# Altium integrated library Capacitor - Aluminium TH.IntLib: 4591 symbols (part 68 of 68)
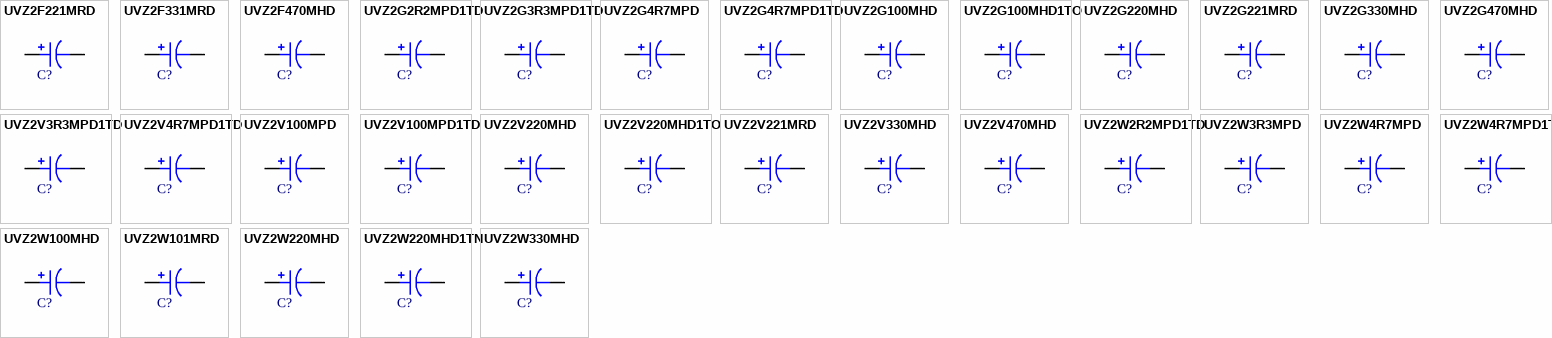
[diagram p181: symbols UVZ2F221MRD to UVZ2W330MHD]

## UVZ2F331MRD
designator C?, comment 330uF  (value not drawn)
CAP ALUM 330UF 20% 315V RADIAL; Part Number: UVZ2F331MRD; Manufacturer: Nichicon; TemperatureRange: -40C ~ 105C; Type: Polar; Ripple Current: 760mA; Value: 330uF; PartId: 27507; Supplier 1: Digi-Key; Supplier Part Number 1: 493-1433-ND; ComponentLink1Description: Datasheet; ComponentLink1URL: http://nichicon-us.com/english/products/pdfs/e-uvz.pdf; ComponentLink2Description: Digi-Key Listing; ComponentLink2URL: https://www.digikey.com/product-detail/en/nichicon/UVZ2F331MRD/493-1433-ND/589174; Tolerance: 20%; Voltage: 315V; Price: 4.2; Device Package: Radial, Can, 25mm
footprint CAP AL TH D25 L12.5 H52
pins: 1, 2

## UVZ2F470MHD
designator C?, comment 47uF  (value not drawn)
CAP ALUM 47UF 20% 315V RADIAL; Part Number: UVZ2F470MHD; Manufacturer: Nichicon; TemperatureRange: -40C ~ 105C; Type: Polar; Ripple Current: 230mA; Value: 47uF; PartId: 26567; Supplier 1: Digi-Key; Supplier Part Number 1: 493-1430-ND; ComponentLink1Description: Datasheet; ComponentLink1URL: http://nichicon-us.com/english/products/pdfs/e-uvz.pdf; ComponentLink2Description: Digi-Key Listing; ComponentLink2URL: https://www.digikey.com/product-detail/en/nichicon/UVZ2F470MHD/493-1430-ND/589171; Tolerance: 20%; Voltage: 315V; Price: 1.16; Device Package: Radial, Can, 16mm
footprint CAP AL TH D16 L7.5 H26.5
pins: 1, 2

## UVZ2G2R2MPD1TD
designator C?, comment 2.2uF  (value not drawn)
CAP ALUM 2.2UF 20% 400V RADIAL; Part Number: UVZ2G2R2MPD1TD; Manufacturer: Nichicon; TemperatureRange: -40C ~ 105C; Type: Polar; Ripple Current: 30mA; Value: 2.2uF; PartId: 24519; Supplier 1: Digi-Key; Supplier Part Number 1: 493-13553-3-ND; ComponentLink1Description: Datasheet; ComponentLink1URL: http://nichicon-us.com/english/products/pdfs/e-uvz.pdf; ComponentLink2Description: Digi-Key Listing; ComponentLink2URL: https://www.digikey.com/product-detail/en/nichicon/UVZ2G2R2MPD1TD/493-13553-3-ND/4342109; Tolerance: 20%; Voltage: 400V; Price: 0.1354; Device Package: Radial, Can, 10mm
footprint CAP AL TH D10 L5 H14.5
pins: 1, 2

## UVZ2G3R3MPD1TD
designator C?, comment 3.3uF  (value not drawn)
CAP ALUM 3.3UF 20% 400V RADIAL; Part Number: UVZ2G3R3MPD1TD; Manufacturer: Nichicon; TemperatureRange: -40C ~ 105C; Type: Polar; Ripple Current: 38mA; Value: 3.3uF; PartId: 24555; Supplier 1: Digi-Key; Supplier Part Number 1: 493-13554-3-ND; ComponentLink1Description: Datasheet; ComponentLink1URL: http://nichicon-us.com/english/products/pdfs/e-uvz.pdf; ComponentLink2Description: Digi-Key Listing; ComponentLink2URL: https://www.digikey.com/product-detail/en/nichicon/UVZ2G3R3MPD1TD/493-13554-3-ND/4342110; Tolerance: 20%; Voltage: 400V; Price: 0.1514; Device Package: Radial, Can, 10mm
footprint CAP AL TH D10 L5 H14.5
pins: 1, 2

## UVZ2G4R7MPD
designator C?, comment 4.7uF  (value not drawn)
CAP ALUM 4.7UF 20% 400V RADIAL; Part Number: UVZ2G4R7MPD; Manufacturer: Nichicon; TemperatureRange: -40C ~ 105C; Type: Polar; Ripple Current: 50mA; Value: 4.7uF; PartId: 25204; Supplier 1: Digi-Key; Supplier Part Number 1: 493-1447-ND; ComponentLink1Description: Datasheet; ComponentLink1URL: http://nichicon-us.com/english/products/pdfs/e-uvz.pdf; ComponentLink2Description: Digi-Key Listing; ComponentLink2URL: https://www.digikey.com/product-detail/en/nichicon/UVZ2G4R7MPD/493-1447-ND/589188; Tolerance: 20%; Voltage: 400V; Price: 0.51; Device Package: Radial, Can, 10mm
footprint CAP AL TH D10 L5 H17.5
pins: 1, 2

## UVZ2G4R7MPD1TD
designator C?, comment 4.7uF  (value not drawn)
CAP ALUM 4.7UF 20% 400V RADIAL; Part Number: UVZ2G4R7MPD1TD; Manufacturer: Nichicon; TemperatureRange: -40C ~ 105C; Type: Polar; Ripple Current: 50mA; Value: 4.7uF; PartId: 25031; Supplier 1: Digi-Key; Supplier Part Number 1: 493-13555-3-ND; ComponentLink1Description: Datasheet; ComponentLink1URL: http://nichicon-us.com/english/products/pdfs/e-uvz.pdf; ComponentLink2Description: Digi-Key Listing; ComponentLink2URL: https://www.digikey.com/product-detail/en/nichicon/UVZ2G4R7MPD1TD/493-13555-3-ND/4342111; Tolerance: 20%; Voltage: 400V; Price: 0.1758; Device Package: Radial, Can, 10mm
footprint CAP AL TH D10 L5 H17.5
pins: 1, 2

## UVZ2G100MHD
designator C?, comment 10uF  (value not drawn)
CAP ALUM 10UF 20% 400V RADIAL; Part Number: UVZ2G100MHD; Manufacturer: Nichicon; TemperatureRange: -40C ~ 105C; Type: Polar; Ripple Current: 90mA; Value: 10uF; PartId: 22860; Supplier 1: Digi-Key; Supplier Part Number 1: 493-1448-ND; ComponentLink1Description: Datasheet; ComponentLink1URL: http://nichicon-us.com/english/products/pdfs/e-uvz.pdf; ComponentLink2Description: Digi-Key Listing; ComponentLink2URL: https://www.digikey.com/product-detail/en/nichicon/UVZ2G100MHD/493-1448-ND/589189; Tolerance: 20%; Voltage: 400V; Price: 0; Device Package: Radial, Can, 12.5mm
footprint CAP AL TH D12.5 L5 H20
pins: 1, 2

## UVZ2G100MHD1TO
designator C?, comment 10uF  (value not drawn)
CAP ALUM 10UF 20% 400V RADIAL; Part Number: UVZ2G100MHD1TO; Manufacturer: Nichicon; TemperatureRange: -40C ~ 105C; Type: Polar; Ripple Current: 90mA; Value: 10uF; PartId: 23145; Supplier 1: Digi-Key; Supplier Part Number 1: 493-13551-3-ND; ComponentLink1Description: Datasheet; ComponentLink1URL: http://nichicon-us.com/english/products/pdfs/e-uvz.pdf; ComponentLink2Description: Digi-Key Listing; ComponentLink2URL: https://www.digikey.com/product-detail/en/nichicon/UVZ2G100MHD1TO/493-13551-3-ND/4342107; Tolerance: 20%; Voltage: 400V; Price: 0.2817; Device Package: Radial, Can, 12.5mm
footprint CAP AL TH D12.5 L5 H22
pins: 1, 2

## UVZ2G220MHD
designator C?, comment 22uF  (value not drawn)
CAP ALUM 22UF 20% 400V RADIAL; Part Number: UVZ2G220MHD; Manufacturer: Nichicon; TemperatureRange: -40C ~ 105C; Type: Polar; Ripple Current: 165mA; Value: 22uF; PartId: 26533; Supplier 1: Digi-Key; Supplier Part Number 1: 493-1449-ND; ComponentLink1Description: Datasheet; ComponentLink1URL: http://nichicon-us.com/english/products/pdfs/e-uvz.pdf; ComponentLink2Description: Digi-Key Listing; ComponentLink2URL: https://www.digikey.com/product-detail/en/nichicon/UVZ2G220MHD/493-1449-ND/589190; Tolerance: 20%; Voltage: 400V; Price: 0.95; Device Package: Radial, Can, 16mm
footprint CAP AL TH D16 L7.5 H26.5
pins: 1, 2

## UVZ2G221MRD
designator C?, comment 220uF  (value not drawn)
CAP ALUM 220UF 20% 400V RADIAL; Part Number: UVZ2G221MRD; Manufacturer: Nichicon; TemperatureRange: -40C ~ 105C; Type: Polar; Ripple Current: 660mA; Value: 220uF; PartId: 27505; Supplier 1: Digi-Key; Supplier Part Number 1: 493-1453-ND; ComponentLink1Description: Datasheet; ComponentLink1URL: http://nichicon-us.com/english/products/pdfs/e-uvz.pdf; ComponentLink2Description: Digi-Key Listing; ComponentLink2URL: https://www.digikey.com/product-detail/en/nichicon/UVZ2G221MRD/493-1453-ND/589194; Tolerance: 20%; Voltage: 400V; Price: 4.07; Device Package: Radial, Can, 25mm
footprint CAP AL TH D25 L12.5 H52
pins: 1, 2

## UVZ2G330MHD
designator C?, comment 33uF  (value not drawn)
CAP ALUM 33UF 20% 400V RADIAL; Part Number: UVZ2G330MHD; Manufacturer: Nichicon; TemperatureRange: -40C ~ 105C; Type: Polar; Ripple Current: 215mA; Value: 33uF; PartId: 27015; Supplier 1: Digi-Key; Supplier Part Number 1: 493-1450-ND; ComponentLink1Description: Datasheet; ComponentLink1URL: http://nichicon-us.com/english/products/pdfs/e-uvz.pdf; ComponentLink2Description: Digi-Key Listing; ComponentLink2URL: https://www.digikey.com/product-detail/en/nichicon/UVZ2G330MHD/493-1450-ND/589191; Tolerance: 20%; Voltage: 400V; Price: 1.42; Device Package: Radial, Can, 16mm
footprint CAP AL TH D16 L7.5 H33.5
pins: 1, 2

## UVZ2G470MHD
designator C?, comment 47uF  (value not drawn)
CAP ALUM 47UF 20% 400V RADIAL; Part Number: UVZ2G470MHD; Manufacturer: Nichicon; TemperatureRange: -40C ~ 105C; Type: Polar; Ripple Current: 270mA; Value: 47uF; PartId: 27370; Supplier 1: Digi-Key; Supplier Part Number 1: 493-1451-ND; ComponentLink1Description: Datasheet; ComponentLink1URL: http://nichicon-us.com/english/products/pdfs/e-uvz.pdf; ComponentLink2Description: Digi-Key Listing; ComponentLink2URL: https://www.digikey.com/product-detail/en/nichicon/UVZ2G470MHD/493-1451-ND/589192; Tolerance: 20%; Voltage: 400V; Price: 1.79; Device Package: Radial, Can, 16mm
footprint CAP AL TH D16 L7.5 H37
pins: 1, 2

## UVZ2V3R3MPD1TD
designator C?, comment 3.3uF  (value not drawn)
CAP ALUM 3.3UF 20% 350V RADIAL; Part Number: UVZ2V3R3MPD1TD; Manufacturer: Nichicon; TemperatureRange: -40C ~ 105C; Type: Polar; Ripple Current: 38mA; Value: 3.3uF; PartId: 24770; Supplier 1: Digi-Key; Supplier Part Number 1: 493-13561-1-ND; ComponentLink1Description: Datasheet; ComponentLink1URL: http://nichicon-us.com/english/products/pdfs/e-uvz.pdf; ComponentLink2Description: Digi-Key Listing; ComponentLink2URL: https://www.digikey.com/product-detail/en/nichicon/UVZ2V3R3MPD1TD/493-13561-1-ND/4342272; Tolerance: 20%; Voltage: 350V; Price: 0.43; Device Package: Radial, Can, 10mm
footprint CAP AL TH D10 L5 H14.5
pins: 1, 2

## UVZ2V4R7MPD1TD
designator C?, comment 4.7uF  (value not drawn)
CAP ALUM 4.7UF 20% 350V RADIAL; Part Number: UVZ2V4R7MPD1TD; Manufacturer: Nichicon; TemperatureRange: -40C ~ 105C; Type: Polar; Ripple Current: 45mA; Value: 4.7uF; PartId: 24771; Supplier 1: Digi-Key; Supplier Part Number 1: 493-13562-1-ND; ComponentLink1Description: Datasheet; ComponentLink1URL: http://nichicon-us.com/english/products/pdfs/e-uvz.pdf; ComponentLink2Description: Digi-Key Listing; ComponentLink2URL: https://www.digikey.com/product-detail/en/nichicon/UVZ2V4R7MPD1TD/493-13562-1-ND/4342273; Tolerance: 20%; Voltage: 350V; Price: 0.43; Device Package: Radial, Can, 10mm
footprint CAP AL TH D10 L5 H14.5
pins: 1, 2

## UVZ2V100MPD
designator C?, comment 10uF  (value not drawn)
CAP ALUM 10UF 20% 350V RADIAL; Part Number: UVZ2V100MPD; Manufacturer: Nichicon; TemperatureRange: -40C ~ 105C; Type: Polar; Ripple Current: 80mA; Value: 10uF; PartId: 25569; Supplier 1: Digi-Key; Supplier Part Number 1: 493-1438-ND; ComponentLink1Description: Datasheet; ComponentLink1URL: http://nichicon-us.com/english/products/pdfs/e-uvz.pdf; ComponentLink2Description: Digi-Key Listing; ComponentLink2URL: https://www.digikey.com/product-detail/en/nichicon/UVZ2V100MPD/493-1438-ND/589179; Tolerance: 20%; Voltage: 350V; Price: 0.65; Device Package: Radial, Can, 10mm
footprint CAP AL TH D10 L5 H22
pins: 1, 2

## UVZ2V100MPD1TD
designator C?, comment 10uF  (value not drawn)
CAP ALUM 10UF 20% 350V RADIAL; Part Number: UVZ2V100MPD1TD; Manufacturer: Nichicon; TemperatureRange: -40C ~ 105C; Type: Polar; Ripple Current: 80mA; Value: 10uF; PartId: 25768; Supplier 1: Digi-Key; Supplier Part Number 1: 493-13557-3-ND; ComponentLink1Description: Datasheet; ComponentLink1URL: http://nichicon-us.com/english/products/pdfs/e-uvz.pdf; ComponentLink2Description: Digi-Key Listing; ComponentLink2URL: https://www.digikey.com/product-detail/en/nichicon/UVZ2V100MPD1TD/493-13557-3-ND/4342113; Tolerance: 20%; Voltage: 350V; Price: 0.2248; Device Package: Radial, Can, 10mm
footprint CAP AL TH D10 L5 H22
pins: 1, 2

## UVZ2V220MHD
designator C?, comment 22uF  (value not drawn)
CAP ALUM 22UF 20% 350V RADIAL; Part Number: UVZ2V220MHD; Manufacturer: Nichicon; TemperatureRange: -40C ~ 105C; Type: Polar; Ripple Current: 115mA; Value: 22uF; PartId: 23543; Supplier 1: Digi-Key; Supplier Part Number 1: 493-1439-ND; ComponentLink1Description: Datasheet; ComponentLink1URL: http://nichicon-us.com/english/products/pdfs/e-uvz.pdf; ComponentLink2Description: Digi-Key Listing; ComponentLink2URL: https://www.digikey.com/product-detail/en/nichicon/UVZ2V220MHD/493-1439-ND/589180; Tolerance: 20%; Voltage: 350V; Price: 0.82; Device Package: Radial, Can, 12.5mm
footprint CAP AL TH D12.5 L5 H25
pins: 1, 2

## UVZ2V220MHD1TO
designator C?, comment 22uF  (value not drawn)
CAP ALUM 22UF 20% 350V RADIAL; Part Number: UVZ2V220MHD1TO; Manufacturer: Nichicon; TemperatureRange: -40C ~ 105C; Type: Polar; Ripple Current: 115mA; Value: 22uF; PartId: 23794; Supplier 1: Digi-Key; Supplier Part Number 1: 493-13558-3-ND; ComponentLink1Description: Datasheet; ComponentLink1URL: http://nichicon-us.com/english/products/pdfs/e-uvz.pdf; ComponentLink2Description: Digi-Key Listing; ComponentLink2URL: https://www.digikey.com/product-detail/en/nichicon/UVZ2V220MHD1TO/493-13558-3-ND/4342114; Tolerance: 20%; Voltage: 350V; Price: 0.329; Device Package: Radial, Can, 12.5mm
footprint CAP AL TH D12.5 L5 H27
pins: 1, 2

## UVZ2V221MRD
designator C?, comment 220uF  (value not drawn)
CAP ALUM 220UF 20% 350V RADIAL; Part Number: UVZ2V221MRD; Manufacturer: Nichicon; TemperatureRange: -40C ~ 105C; Type: Polar; Ripple Current: 620mA; Value: 220uF; PartId: 27665; Supplier 1: Digi-Key; Supplier Part Number 1: 493-1443-ND; ComponentLink1Description: Datasheet; ComponentLink1URL: http://nichicon-us.com/english/products/pdfs/e-uvz.pdf; ComponentLink2Description: Digi-Key Listing; ComponentLink2URL: https://www.digikey.com/product-detail/en/nichicon/UVZ2V221MRD/493-1443-ND/589184; Tolerance: 20%; Voltage: 350V; Price: 4.24; Device Package: Radial, Can, 22mm
footprint CAP AL TH D22 L10 H53
pins: 1, 2

## UVZ2V330MHD
designator C?, comment 33uF  (value not drawn)
CAP ALUM 33UF 20% 350V RADIAL; Part Number: UVZ2V330MHD; Manufacturer: Nichicon; TemperatureRange: -40C ~ 105C; Type: Polar; Ripple Current: 195mA; Value: 33uF; PartId: 26562; Supplier 1: Digi-Key; Supplier Part Number 1: 493-1440-ND; ComponentLink1Description: Datasheet; ComponentLink1URL: http://nichicon-us.com/english/products/pdfs/e-uvz.pdf; ComponentLink2Description: Digi-Key Listing; ComponentLink2URL: https://www.digikey.com/product-detail/en/nichicon/UVZ2V330MHD/493-1440-ND/589181; Tolerance: 20%; Voltage: 350V; Price: 1.1; Device Package: Radial, Can, 16mm
footprint CAP AL TH D16 L7.5 H26.5
pins: 1, 2

## UVZ2V470MHD
designator C?, comment 47uF  (value not drawn)
CAP ALUM 47UF 20% 350V RADIAL; Part Number: UVZ2V470MHD; Manufacturer: Nichicon; TemperatureRange: -40C ~ 105C; Type: Polar; Ripple Current: 270mA; Value: 47uF; PartId: 27321; Supplier 1: Digi-Key; Supplier Part Number 1: 493-1441-ND; ComponentLink1Description: Datasheet; ComponentLink1URL: http://nichicon-us.com/english/products/pdfs/e-uvz.pdf; ComponentLink2Description: Digi-Key Listing; ComponentLink2URL: https://www.digikey.com/product-detail/en/nichicon/UVZ2V470MHD/493-1441-ND/589182; Tolerance: 20%; Voltage: 350V; Price: 1.51; Device Package: Radial, Can, 16mm
footprint CAP AL TH D16 L7.5 H37
pins: 1, 2

## UVZ2W2R2MPD1TD
designator C?, comment 2.2uF  (value not drawn)
CAP ALUM 2.2UF 20% 450V RADIAL; Part Number: UVZ2W2R2MPD1TD; Manufacturer: Nichicon; TemperatureRange: -25C ~ 105C; Type: Polar; Ripple Current: 23mA; Value: 2.2uF; PartId: 24571; Supplier 1: Digi-Key; Supplier Part Number 1: 493-13566-3-ND; ComponentLink1Description: Datasheet; ComponentLink1URL: http://nichicon-us.com/english/products/pdfs/e-uvz.pdf; ComponentLink2Description: Digi-Key Listing; ComponentLink2URL: https://www.digikey.com/product-detail/en/nichicon/UVZ2W2R2MPD1TD/493-13566-3-ND/4342122; Tolerance: 20%; Voltage: 450V; Price: 0.1557; Device Package: Radial, Can, 10mm
footprint CAP AL TH D10 L5 H14.5
pins: 1, 2

## UVZ2W3R3MPD
designator C?, comment 3.3uF  (value not drawn)
CAP ALUM 3.3UF 20% 450V RADIAL; Part Number: UVZ2W3R3MPD; Manufacturer: Nichicon; TemperatureRange: -25C ~ 105C; Type: Polar; Ripple Current: 31mA; Value: 3.3uF; PartId: 25218; Supplier 1: Digi-Key; Supplier Part Number 1: 493-1456-ND; ComponentLink1Description: Datasheet; ComponentLink1URL: http://nichicon-us.com/english/products/pdfs/e-uvz.pdf; ComponentLink2Description: Digi-Key Listing; ComponentLink2URL: https://www.digikey.com/product-detail/en/nichicon/UVZ2W3R3MPD/493-1456-ND/589197; Tolerance: 20%; Voltage: 450V; Price: 0.53; Device Package: Radial, Can, 10mm
footprint CAP AL TH D10 L5 H17.5
pins: 1, 2

## UVZ2W4R7MPD
designator C?, comment 4.7uF  (value not drawn)
CAP ALUM 4.7UF 20% 450V RADIAL; Part Number: UVZ2W4R7MPD; Manufacturer: Nichicon; TemperatureRange: -25C ~ 105C; Type: Polar; Ripple Current: 40mA; Value: 4.7uF; PartId: 25573; Supplier 1: Digi-Key; Supplier Part Number 1: 493-1457-ND; ComponentLink1Description: Datasheet; ComponentLink1URL: http://nichicon-us.com/english/products/pdfs/e-uvz.pdf; ComponentLink2Description: Digi-Key Listing; ComponentLink2URL: https://www.digikey.com/product-detail/en/nichicon/UVZ2W4R7MPD/493-1457-ND/589198; Tolerance: 20%; Voltage: 450V; Price: 0.66; Device Package: Radial, Can, 10mm
footprint CAP AL TH D10 L5 H22
pins: 1, 2

## UVZ2W4R7MPD1TD
designator C?, comment 4.7uF  (value not drawn)
CAP ALUM 4.7UF 20% 450V RADIAL; Part Number: UVZ2W4R7MPD1TD; Manufacturer: Nichicon; TemperatureRange: -25C ~ 105C; Type: Polar; Ripple Current: 40mA; Value: 4.7uF; PartId: 25770; Supplier 1: Digi-Key; Supplier Part Number 1: 493-13568-3-ND; ComponentLink1Description: Datasheet; ComponentLink1URL: http://nichicon-us.com/english/products/pdfs/e-uvz.pdf; ComponentLink2Description: Digi-Key Listing; ComponentLink2URL: https://www.digikey.com/product-detail/en/nichicon/UVZ2W4R7MPD1TD/493-13568-3-ND/4342124; Tolerance: 20%; Voltage: 450V; Price: 0.2262; Device Package: Radial, Can, 10mm
footprint CAP AL TH D10 L5 H22
pins: 1, 2

## UVZ2W100MHD
designator C?, comment 10uF  (value not drawn)
CAP ALUM 10UF 20% 450V RADIAL; Part Number: UVZ2W100MHD; Manufacturer: Nichicon; TemperatureRange: -25C ~ 105C; Type: Polar; Ripple Current: 65mA; Value: 10uF; PartId: 22870; Supplier 1: Digi-Key; Supplier Part Number 1: 493-1458-ND; ComponentLink1Description: Datasheet; ComponentLink1URL: http://nichicon-us.com/english/products/pdfs/e-uvz.pdf; ComponentLink2Description: Digi-Key Listing; ComponentLink2URL: https://www.digikey.com/product-detail/en/nichicon/UVZ2W100MHD/493-1458-ND/589199; Tolerance: 20%; Voltage: 450V; Price: 0; Device Package: Radial, Can, 12.5mm
footprint CAP AL TH D12.5 L5 H20
pins: 1, 2

## UVZ2W101MRD
designator C?, comment 100uF  (value not drawn)
CAP ALUM 100UF 20% 450V RADIAL; Part Number: UVZ2W101MRD; Manufacturer: Nichicon; TemperatureRange: -25C ~ 105C; Type: Polar; Ripple Current: 270mA; Value: 100uF; PartId: 27575; Supplier 1: Digi-Key; Supplier Part Number 1: 493-1462-ND; ComponentLink1Description: Datasheet; ComponentLink1URL: http://nichicon-us.com/english/products/pdfs/e-uvz.pdf; ComponentLink2Description: Digi-Key Listing; ComponentLink2URL: https://www.digikey.com/product-detail/en/nichicon/UVZ2W101MRD/493-1462-ND/589203; Tolerance: 20%; Voltage: 450V; Price: 3.65; Device Package: Radial, Can, 22mm
footprint CAP AL TH D22 L10 H43
pins: 1, 2

## UVZ2W220MHD
designator C?, comment 22uF  (value not drawn)
CAP ALUM 22UF 20% 450V RADIAL; Part Number: UVZ2W220MHD; Manufacturer: Nichicon; TemperatureRange: -25C ~ 105C; Type: Polar; Ripple Current: 115mA; Value: 22uF; PartId: 26560; Supplier 1: Digi-Key; Supplier Part Number 1: 493-1459-ND; ComponentLink1Description: Datasheet; ComponentLink1URL: http://nichicon-us.com/english/products/pdfs/e-uvz.pdf; ComponentLink2Description: Digi-Key Listing; ComponentLink2URL: https://www.digikey.com/product-detail/en/nichicon/UVZ2W220MHD/493-1459-ND/589200; Tolerance: 20%; Voltage: 450V; Price: 1.1; Device Package: Radial, Can, 16mm
footprint CAP AL TH D16 L7.5 H26.5
pins: 1, 2

## UVZ2W220MHD1TN
designator C?, comment 22uF  (value not drawn)
CAP ALUM 22UF 20% 450V RADIAL; Part Number: UVZ2W220MHD1TN; Manufacturer: Nichicon; TemperatureRange: -25C ~ 105C; Type: Polar; Ripple Current: 115mA; Value: 22uF; PartId: 26758; Supplier 1: Digi-Key; Supplier Part Number 1: 493-13565-3-ND; ComponentLink1Description: Datasheet; ComponentLink1URL: http://nichicon-us.com/english/products/pdfs/e-uvz.pdf; ComponentLink2Description: Digi-Key Listing; ComponentLink2URL: https://www.digikey.com/product-detail/en/nichicon/UVZ2W220MHD1TN/493-13565-3-ND/4342121; Tolerance: 20%; Voltage: 450V; Price: 0.5794; Device Package: Radial, Can, 16mm
footprint CAP AL TH D16 L7.5 H27
pins: 1, 2

## UVZ2W330MHD
designator C?, comment 33uF  (value not drawn)
CAP ALUM 33UF 20% 450V RADIAL; Part Number: UVZ2W330MHD; Manufacturer: Nichicon; TemperatureRange: -25C ~ 105C; Type: Polar; Ripple Current: 165mA; Value: 33uF; PartId: 27319; Supplier 1: Digi-Key; Supplier Part Number 1: 493-1460-ND; ComponentLink1Description: Datasheet; ComponentLink1URL: http://nichicon-us.com/english/products/pdfs/e-uvz.pdf; ComponentLink2Description: Digi-Key Listing; ComponentLink2URL: https://www.digikey.com/product-detail/en/nichicon/UVZ2W330MHD/493-1460-ND/589201; Tolerance: 20%; Voltage: 450V; Price: 1.48; Device Package: Radial, Can, 16mm
footprint CAP AL TH D16 L7.5 H37
pins: 1, 2